# EAGLE library part ADIN1110 (library ADIN1110)
The ADIN1110 is an ultra low power, single port, 10BASE-T1L transceiver design for industrial Ethernet applications and is compliant with the IEEE® 802.3cg-2019™ Ethernet standard for long reach, 10 Mbps single pair Ethernet (SPE).
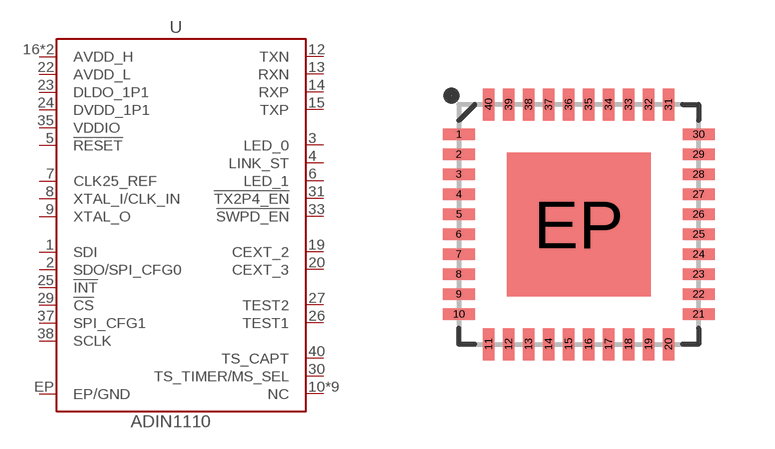
[diagram p0: symbol with the pads of LFCSP-40; footprint LFCSP-40]

Designator prefix U

## ADIN1110 (PROD_ID: IC-16335)  [LFCSP-40]
1  SDI
2  SDO/SPI_CFG0
3  LED_0
4  LINK_ST
5  !RESET!
6  LED_1
7  CLK25_REF
8  XTAL_I/CLK_IN
9  XTAL_O
10  NC  nc
11  NC  nc
12  TXN
13  RXN
14  RXP
15  TXP
16  AVDD_H
17  AVDD_H
18  NC  nc
19  CEXT_2
20  CEXT_3
21  NC  nc
22  AVDD_L
23  DLDO_1P1
24  DVDD_1P1
25  !INT!
26  TEST1
27  TEST2
28  NC  nc
29  !CS!
30  TS_TIMER/MS_SEL
31  !TX2P4_EN!
32  NC  nc
33  !SWPD_EN!
34  NC  nc
35  VDDIO
36  NC  nc
37  SPI_CFG1
38  SCLK
39  NC  nc
40  TS_CAPT
EP  EP/GND

## Footprint LFCSP-40 (pad centres in mm)
40-LFCSP (Lead Frame Chip Scale Package) 6x6mm body and 0.75 mm Package Height - ADIN1110 datasheet
smd 0.8 x 0.285: 1 -3,2.25; 2 -3,1.75; 3 -3,1.25; 4 -3,0.75; 5 -3,0.25; 6 -3,-0.25; 7 -3,-0.75; 8 -3,-1.25; 9 -3,-1.75; 10 -3,-2.25; 21 3,-2.25; 22 3,-1.75; 23 3,-1.25; 24 3,-0.75; 25 3,-0.25; 26 3,0.25; 27 3,0.75; 28 3,1.25; 29 3,1.75; 30 3,2.25
smd 0.285 x 0.8: 11 -2.25,-3; 12 -1.75,-3; 13 -1.25,-3; 14 -0.75,-3; 15 -0.25,-3; 16 0.25,-3; 17 0.75,-3; 18 1.25,-3; 19 1.75,-3; 20 2.25,-3; 31 2.25,3; 32 1.75,3; 33 1.25,3; 34 0.75,3; 35 0.25,3; 36 -0.25,3; 37 -0.75,3; 38 -1.25,3; 39 -1.75,3; 40 -2.25,3
smd 3.6 x 3.6: EP 0,0